# Altium schematic symbol library RCU-0C.SchLib: 1 symbol
Pins are listed as number, name and electrical type; pins without a type are passive.

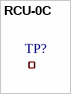
[diagram p0: symbol RCU-0C]

## RCU-0C
designator TP?
pins: 1